# EAGLE library part MD04SSP (library con-yamaichi)
YAMAICHI CONNECTOR
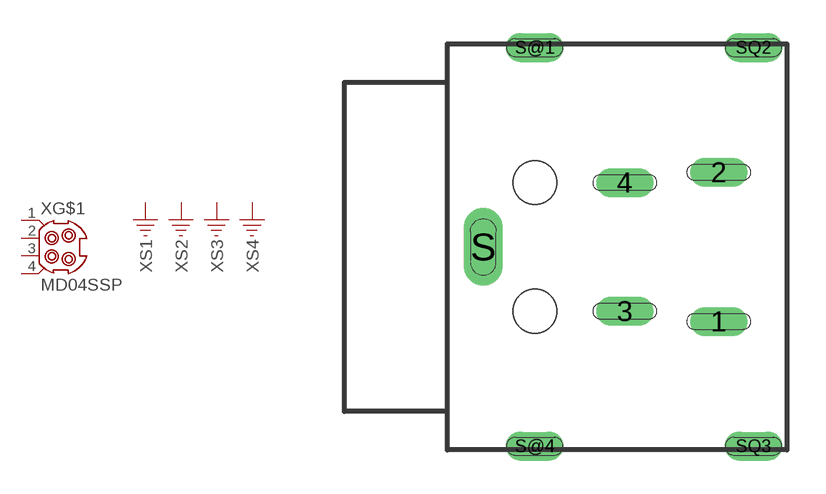
[diagram p30: symbol with the pads of MD04SSP; footprint MD04SSP]

Designator prefix X; gates G$1=MD04SSP S1=SHIELD S2=SHIELD S3=SHIELD S4=SHIELD

## MD04SSP  [MD04SSP]
1  G$1:1  pas
2  G$1:2  pas
3  G$1:3  pas
4  G$1:4  pas
S@1  S1:1  pas
S@4  S2:1  pas
SQ2  S3:1  pas
SQ3  S4:1  pas

## Footprint MD04SSP (pad centres in mm)
Mini Din YAMAICHI CONNECTOR
drill 0.61 long: 1 3.65,-2.9; 2 3.65,2.9; 3 0,-2.5; 4 0,2.5; S@1 -3.5,7.75; S@4 -3.5,-7.75; SQ2 5,7.75; SQ3 5,-7.75
drill 1 long: S -5.5,0
hole 1.7 at -3.5,-2.5
hole 1.7 at -3.5,2.5